# EAGLE library part HTSS-105-01-G-D (library circuit_tree)
IC
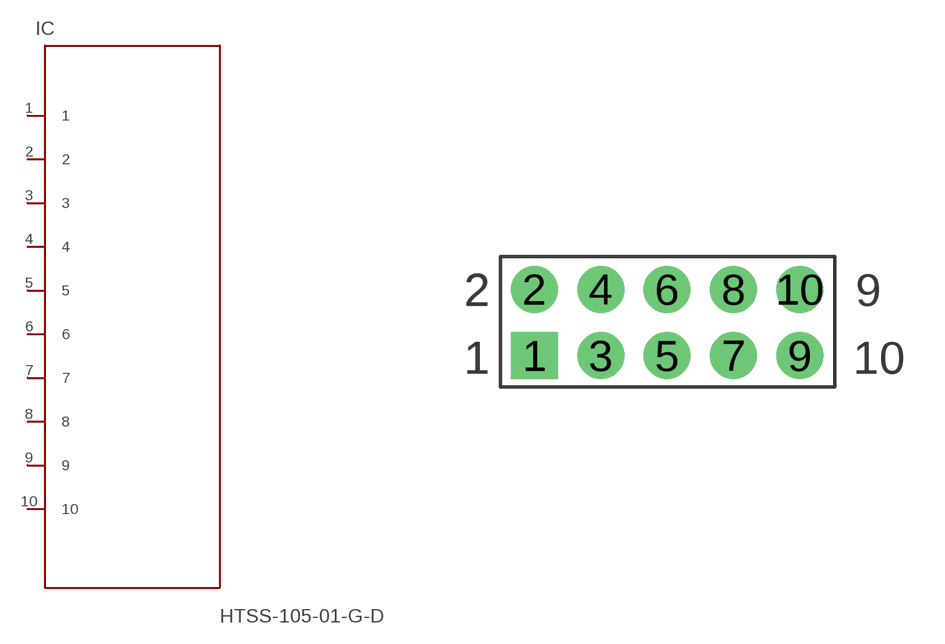
[diagram p0: symbol with the pads of HTSS-105-01-G-D; footprint HTSS-105-01-G-D]

Designator prefix IC

## HTSS-105-01-G-D  [HTSS-105-01-G-D]
1  1  pas
2  2  pas
3  3  pas
4  4  pas
5  5  pas
6  6  pas
7  7  pas
8  8  pas
9  9  pas
10  10  pas

## Footprint HTSS-105-01-G-D (pad centres in mm)
drill 1 pad 1.8 square: 1 0,0
drill 1 pad 1.8: 2 0,2.54; 3 2.54,0; 4 2.54,2.54; 5 5.08,0; 6 5.08,2.54; 7 7.62,0; 8 7.62,2.54; 9 10.16,0; 10 10.16,2.54